# EAGLE library part XFM3-10 (library Custom_Library)
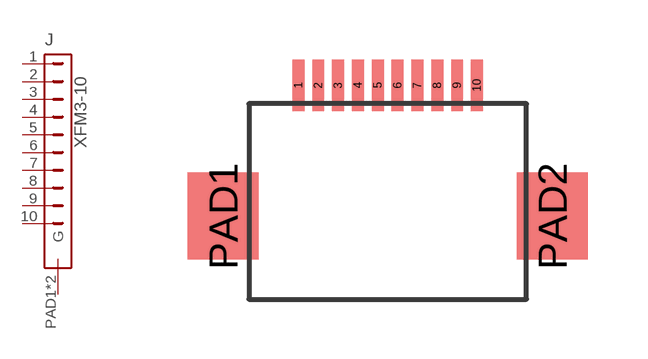
[diagram p18: symbol with the pads of XF3M-10; footprint XF3M-10]

Designator prefix J

## XFM3-10  [XF3M-10]
1  1  pas
2  2  pas
3  3  pas
4  4  pas
5  5  pas
6  6  pas
7  7  pas
8  8  pas
9  9  pas
10  10  pas
PAD1  G
PAD2  G

## Footprint XF3M-10 (pad centres in mm)
smd 0.3 x 1.3: 1 -2.25,0.65; 2 -1.75,0.65; 3 -1.25,0.65; 4 -0.75,0.65; 5 -0.25,0.65; 6 0.25,0.65; 7 0.75,0.65; 8 1.25,0.65; 9 1.75,0.65; 10 2.25,0.65
smd 1.8 x 2.2: PAD1 -4.15,-2.65; PAD2 4.15,-2.65